# EAGLE library part BQ25100AYFPT (library Battery Chargers)
Charger IC Lithium Ion/Polymer 6-DSBGA Manufacturer's datasheet <https://www.ti.com/lit/ds/symlink/bq25100a.pdf?HQS=TI-null-null-digikeymode-df-pf-null-wwe&ts=1594274019187>
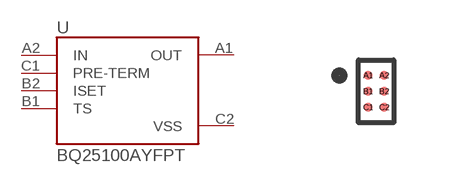
[diagram p0: symbol with the pads of BQ25100AYFPT; footprint BQ25100AYFPT]

Designator prefix U

## BQ25100AYFPT (CREATED_BY: PCBLayout.com; DIGIKEY_PART_NUMBER: 296-38377-1-ND; MANUFACTURER: Texas Instruments; MPN: BQ25100AYFPT; PACKAGE: 6-DSBGA)  [BQ25100AYFPT]
A1  OUT  out
A2  IN  in
B1  TS  in
B2  ISET  in
C1  PRE-TERM  in
C2  VSS  pwr

## Footprint BQ25100AYFPT (pad centres in mm)
smd 0.23 x 0.23: A1 -0.2,0.4; A2 0.2,0.4; B1 -0.2,0; B2 0.2,0; C1 -0.2,-0.4; C2 0.2,-0.4